# Altium schematic symbol library SCH - LOGIC - TC7SZ86F.SCHLIB: 1 symbol
Pins are listed as number, name and electrical type; pins without a type are passive.

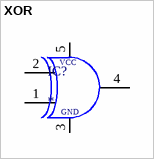
[diagram p0: symbol XOR]

## XOR
designator IC?
pins: 1, 2, 3, 4, 5
text: VCC; GND